# EAGLE library part NRF52840-DONGLE (library NRF52840-DONGLE)
NRF52840 Bluetooth-5/Thread/802.15.4/ANT/2.4GHz Multiprotocol SoC USB Development Dongle
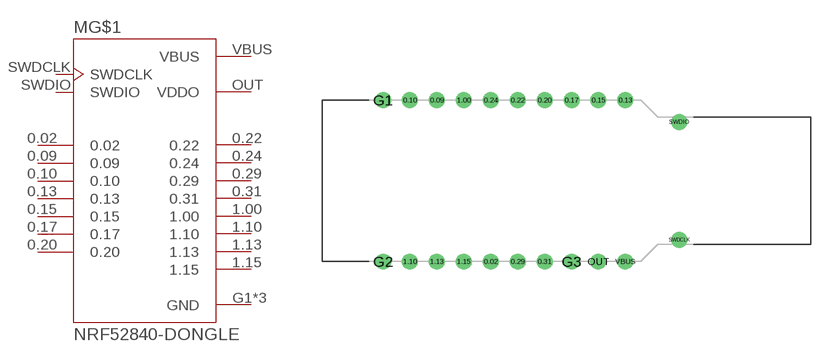
[diagram p0: symbol with the pads of MODULE_NRF52840-DONGLE; footprint MODULE_NRF52840-DONGLE]

Designator prefix M; gates G$1=NRF52840-DONGLE G$2=SWD

## NRF52840-DONGLE (AVAILABILITY: Unavailable; DESCRIPTION: - Transceiver; Bluetooth® 5 For Use With nRF52840; MF: Nordic Semiconductor; MP: NRF52840-DONGLE; PACKAGE: None; PRICE: None)  [MODULE_NRF52840-DONGLE]
0.02  G$1:0.02
0.09  G$1:0.09
0.10  G$1:0.10
0.13  G$1:0.13
0.15  G$1:0.15
0.17  G$1:0.17
0.20  G$1:0.20
0.22  G$1:0.22
0.24  G$1:0.24
0.29  G$1:0.29
0.31  G$1:0.31
1.00  G$1:1.00
1.10  G$1:1.10
1.13  G$1:1.13
1.15  G$1:1.15
G1  G$1:GND  pwr
G2  G$1:GND  pwr
G3  G$1:GND  pwr
OUT  G$1:VDDO  out
SWDCLK  G$2:SWDCLK
SWDIO  G$2:SWDIO
VBUS  G$1:VBUS  pwr

## Footprint MODULE_NRF52840-DONGLE (pad centres in mm)
drill 1: 0.02 10.152,-15.24; 0.09 5.072,0; 0.10 2.532,0; 0.13 22.852,0; 0.15 20.312,0; 0.17 17.772,0; 0.20 15.232,0; 0.22 12.692,0; 0.24 10.152,0; 0.29 12.692,-15.24; 0.31 15.232,-15.24; 1.00 7.612,0; 1.10 2.532,-15.24; 1.13 5.072,-15.24; 1.15 7.612,-15.24; G1 -0.008,0; G2 -0.008,-15.24; G3 17.772,-15.24; OUT 20.312,-15.24; SWDCLK 27.932,-13.18; SWDIO 27.932,-2.06; VBUS 22.852,-15.24